# EAGLE library part 7508110345 (library Wurth_Power Magnetics_WE-OLSTM)
WE-OLSTM Offline Flyback Transformers Characteristics Nominal input voltage: 85–265 VAC (120–375 VDC) Operating temperature: –40 °C to +125 °C Isolation voltage: 2 kVAC up to 5 kVAC Multiple output options Options for fixed frequency or quasi-resonant mode operation Most products meet reinforced insulation Applications Offline-switch mode power supplies Especially designed for several ICs from STMicroelectronics Auxiliary power supply Home appliances Consumer electronics <https://www.we-online.com/components/media/o781306v209%20FAMILY-MID-OLSTM.jpg> Details see: www.we-online.com/en/components/products/WE-OLSTM <www.we-online.com/en/components/products/WE-OLSTM/?utm_source=eagle_model&utm_medium=description_link&utm_campaign=eisos_eagle> Created by Leviosa 2024-04-15 2024(C) Wurth Elektronik
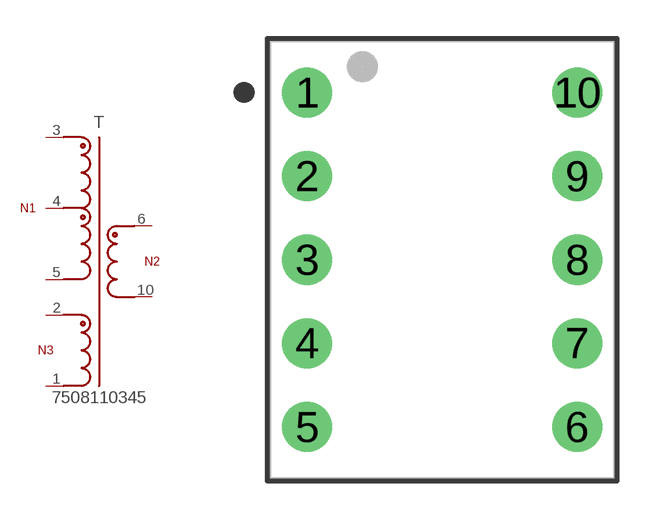
[diagram p0: symbol with the pads of WE-OLSTM_EE16_7508110345; footprint WE-OLSTM_EE16_7508110345]

Designator prefix T

## 7508110345 (DATASHEET-URL: https://www.we-online.com/redexpert/spec/7508110345?ae; FSWITCH: 60kHz; IOUT1: 500mA; ISAT: 480mA; L: 2mH; MOUNT: THT; N: 5.78:1:0.52; PART-NUMBER: 7508110345; SIZE: EE16/7/5; VALUE: 7508110345; VAUX: 6V; VIN: 85 - 265 V (AC); VOUT1: 12V; VT: 4000V(AC))  [WE-OLSTM_EE16_7508110345]
1  1  pas
2  2  pas
3  3  pas
4  4  pas
5  5  pas
6  6  pas
10  10  pas

## Footprint WE-OLSTM_EE16_7508110345 (pad centres in mm)
WE-OLSTM Offline Flyback Transformers for STMicroelectronics Size: EE16, THT, 10Pins LXWXH=13.4X17X21.5mm
drill 1.3: 1 -5.25,6.5; 2 -5.25,3.25; 3 -5.25,0; 4 -5.25,-3.25; 5 -5.25,-6.5; 6 5.25,-6.5; 7 5.25,-3.25; 8 5.25,0; 9 5.25,3.25; 10 5.25,6.5